# Altium schematic symbol library STM32WB5MMGH6TR.SchLib: 2 symbols
Pins are listed as number, name and electrical type; pins without a type are passive.

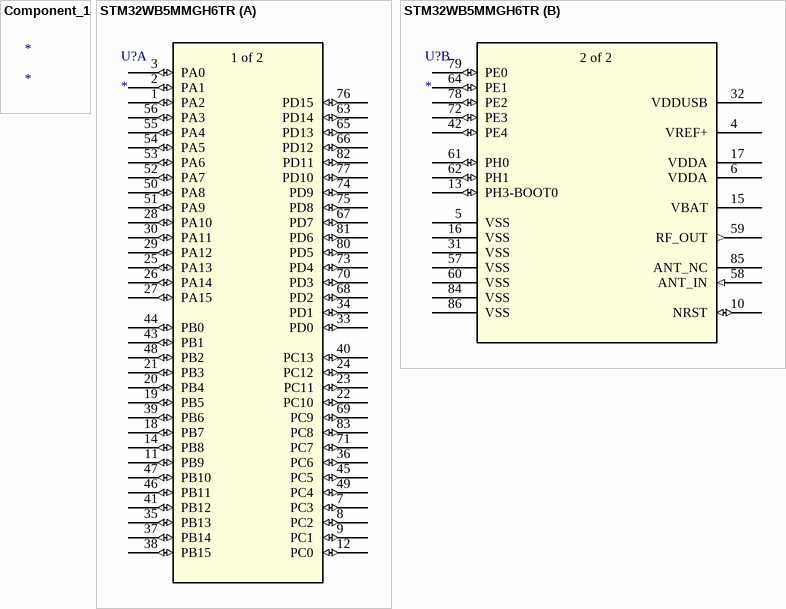
[diagram p0: symbols Component_1 to STM32WB5MMGH6TR]

## Component_1
designator *

## STM32WB5MMGH6TR
designator U?
No Description Available; Mfr_Name: STMicroelectronics; RefDes: RefDes; Type: Type
footprint PCBComponent_1 (Footprint not found)
footprint SIP-LGA86_STM
part A pins: 1 PA2 (io), 2 PA1 (io), 3 PA0 (io), 7 PC3 (io), 8 PC2 (io), 9 PC1 (io), 11 PB9 (io), 12 PC0 (io), 14 PB8 (io), 18 PB7 (io), 19 PB5 (io), 20 PB4 (io), 21 PB3 (io), 22 PC10 (io), 23 PC11 (io), 24 PC12 (io), 25 PA13 (io), 26 PA14 (io), 27 PA15 (io), 28 PA10 (io), 29 PA12 (io), 30 PA11 (io), 33 PD0 (io), 34 PD1 (io), 35 PB13 (io), 36 PC6 (io), 37 PB14 (io), 38 PB15 (io), 39 PB6 (io), 40 PC13 (io), 41 PB12 (io), 43 PB1 (io), 44 PB0 (io), 45 PC5 (io), 46 PB11 (io), 47 PB10 (io), 48 PB2 (io), 49 PC4 (io), 50 PA8 (io), 51 PA9 (io), 52 PA7 (io), 53 PA6 (io), 54 PA5 (io), 55 PA4 (io), 56 PA3 (io), 63 PD14 (io), 65 PD13 (io), 66 PD12 (io), 67 PD7 (io), 68 PD2 (io), 69 PC9 (io), 70 PD3 (io), 71 PC7 (io), 73 PD4 (io), 74 PD9 (io), 75 PD8 (io), 76 PD15 (io), 77 PD10 (io), 80 PD5 (io), 81 PD6 (io), 82 PD11 (io), 83 PC8 (io)
part B pins: 4 VREF+ (power), 5 VSS (power), 6 VDDA (power), 10 NRST (io), 13 PH3-BOOT0 (io), 15 VBAT (power), 16 VSS (power), 17 VDDA (power), 31 VSS (power), 32 VDDUSB (power), 42 PE4 (io), 57 VSS (power), 58 ANT_IN (in), 59 RF_OUT (out), 60 VSS (power), 61 PH0 (io), 62 PH1 (io), 64 PE1 (io), 72 PE3 (io), 78 PE2 (io), 79 PE0 (io), 84 VSS (power), 85 ANT_NC, 86 VSS (power)
part A text: 1 of 2
part B text: 2 of 2